# EAGLE library part LM358 (library user)
lm358 汎用オペアンプ 秋月電子通販コード[I-11167]
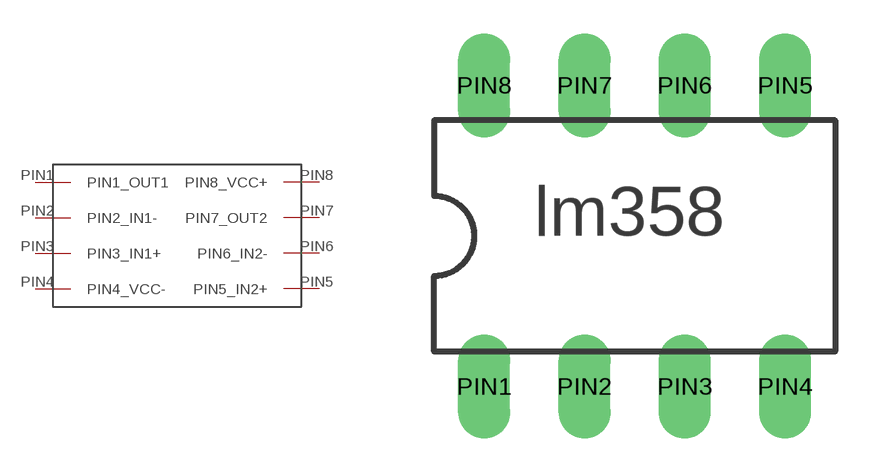
[diagram p20: symbol with the pads of LM358; footprint LM358]

Designator prefix -

## LM358  [LM358]
PIN1  PIN1_OUT1
PIN2  PIN2_IN1-
PIN3  PIN3_IN1+
PIN4  PIN4_VCC-
PIN5  PIN5_IN2+
PIN6  PIN6_IN2-
PIN7  PIN7_OUT2
PIN8  PIN8_VCC+

## Footprint LM358 (pad centres in mm)
Dual In Line Package
drill 0.813 long: PIN1 -3.81,-3.81; PIN2 -1.27,-3.81; PIN3 1.27,-3.81; PIN4 3.81,-3.81; PIN5 3.81,3.81; PIN6 1.27,3.81; PIN7 -1.27,3.81; PIN8 -3.81,3.81